# Altium schematic symbol library PinHeader_2.54mm.SchLib: 39 symbols
Pins are listed as number, name and electrical type; pins without a type are passive.

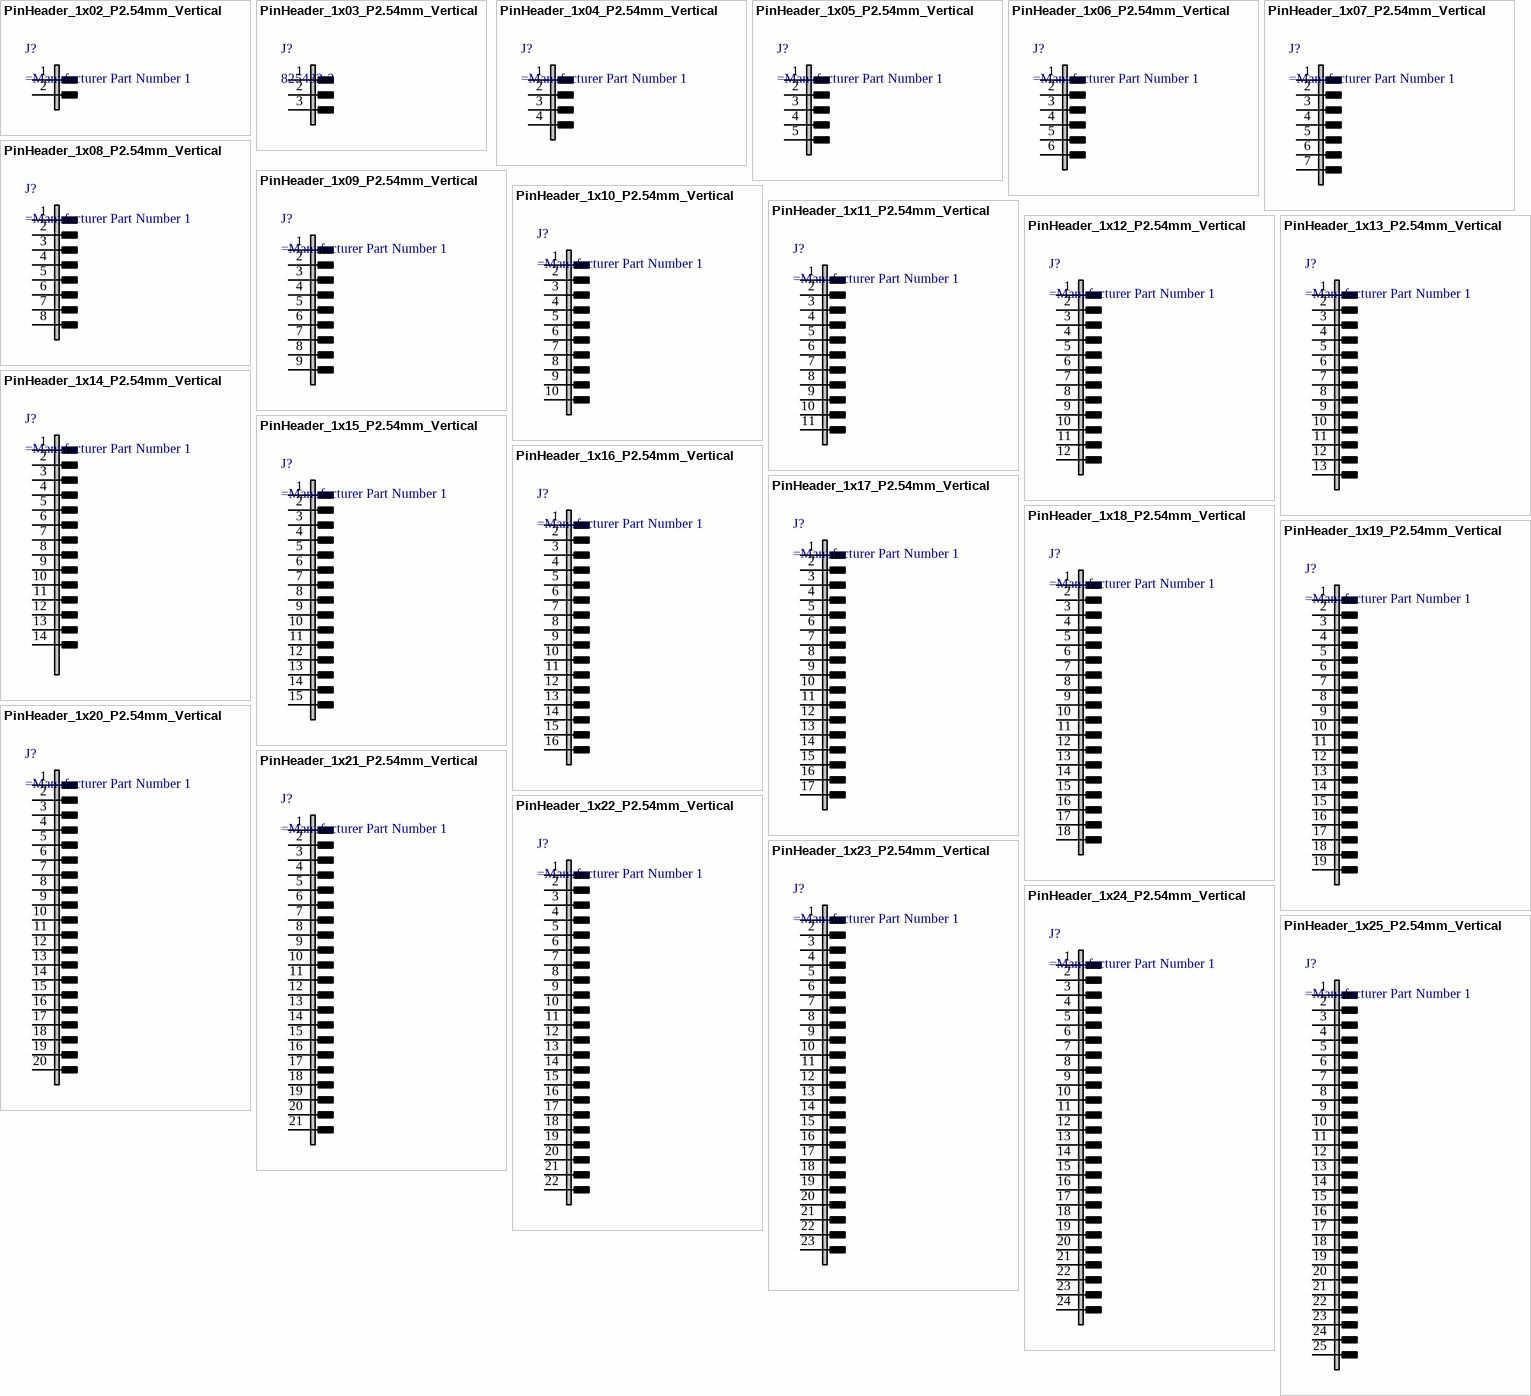
[diagram p0: symbols PinHeader_1x02_P2.54mm_Vertical to PinHeader_1x25_P2.54mm_Vertical]

## PinHeader_1x02_P2.54mm_Vertical
designator J?
Through hole straight pin header, 1x02, 2.54mm pitch, single row
footprint PinHeader_1x02_P2.54mm_Vertical (Through hole straight pin header, 1x02, 2.54mm pitch, single row)
pins: 1, 2

## PinHeader_1x03_P2.54mm_Vertical
designator J?, comment 825433-3
Through hole straight pin header, 1x03, 2.54mm pitch, single row; Manufacturer 1: TE Connectivity; Description 1: PCB Header, 2.54 mm, Vertical, Straight, 3-Way, Gold, AMPMODU Mod II Series; Category 1: Connectors; Current Rating: 3A; Number of Positions: 3; Connector Type: Plug,Header,Pin; Gender: Male; Board Standoff: No (Without); Keyed: No; PCB Mount Retention: Without; PCB Mounting Orientation: Vertical; Contact Current Rating: 5A; Contact Post Length: 0.1259inch; Plating Thickness: 2.5um; Approvals: CSA; Supplier 1: LCSC; Supplier Part Number 1: C306148; Manufacturer Part Number 1: 825433-3; RoHS 1: Yes; Stock 1: 886; Pricing 1: 1=0.52500, 10=0.42480, 30=0.38350, 100=0.28990, 500=0.27030, 1500=0.25770 (USD); Mount: Through Hole; Contact Plating: Gold,Tin; Contact Material: CuZn; Housing Material: PBT; Color: Green; Contact Shape: Square; Housing Color: Green; Contact Finish - Mating: GOLD; Insulation Material: PBT; Insulation Color: Green; Min Operating Temperature: -65°C; Max Operating Temperature: 105°C; Package Quantity: 2000; Number of Rows: 1; Packaging: Box; Contact Gender: Male; Termination: Through Hole; Number of Contacts: 3; Series: AMPMODU MOD II; Contact Type: Male Pin; Fastening Type: Pull; Orientation: Straight; Gasket: No (Without); Mating Alignment: No (Without); Mating Connector Lock: No (Without); Selectively Loaded: No (Without); Stabilizers: No (Without); Strain Relief: No (Without); Contact Protection: No (Without); High Speed Serial Data Connector: No; High Temperature Housing: No; Length: 7.62mm; Pitch: 2.54mm; Contact Mating Length: 6.7mm; Row Spacing: 2.54mm; Depth: 3.69mm; Radiation Hardening: No; Flammability Rating: UL94 V-0; RoHS Compliant: Yes; ELV: Compliant; Reach SVHC Compliant: Yes; ComponentLink1URL: https://datasheet.ciiva.com/11746/0900766b80dac36e-11746726.pdf?src-supplier=RSComponents; ComponentLink1Description: https://datasheet.ciiva.com/11746/0900766b80dac36e-11746726.pdf?src-supplier=RSComponents; ComponentLink2URL: https://datasheet.ciiva.com/23814/eng-cd-825433-r2-23814688.pdf?src-supplier=Newark; ComponentLink2Description: https://datasheet.ciiva.com/23814/eng-cd-825433-r2-23814688.pdf?src-supplier=Newark; ComponentLink3URL: https://datasheet.ciiva.com/29369/001094853-da-01-en-stiftleiste-1-reihig-0-0825433-3-29369863.pdf?src-supplier=Conrad; ComponentLink3Description: https://datasheet.ciiva.com/29369/001094853-da-01-en-stiftleiste-1-reihig-0-0825433-3-29369863.pdf?src-supplier=Conrad; ComponentLink4URL: https://datasheet.ciiva.com/8047/eng-cd-825433-r2-8047403.pdf?src-supplier=Element14; ComponentLink4Description: https://datasheet.ciiva.com/8047/eng-cd-825433-r2-8047403.pdf?src-supplier=Element14
footprint PinHeader_1x03_P2.54mm_Vertical (Through hole straight pin header, 1x03, 2.54mm pitch, single row)
pins: 1, 2, 3

## PinHeader_1x04_P2.54mm_Vertical
designator J?
Through hole straight pin header, 1x04, 2.54mm pitch, single row
footprint PinHeader_1x04_P2.54mm_Vertical (Through hole straight pin header, 1x04, 2.54mm pitch, single row)
pins: 1, 2, 3, 4

## PinHeader_1x05_P2.54mm_Vertical
designator J?
Through hole straight pin header, 1x05, 2.54mm pitch, single row
footprint PinHeader_1x05_P2.54mm_Vertical (Through hole straight pin header, 1x05, 2.54mm pitch, single row)
pins: 1, 2, 3, 4, 5

## PinHeader_1x06_P2.54mm_Vertical
designator J?
Through hole straight pin header, 1x06, 2.54mm pitch, single row
footprint PinHeader_1x06_P2.54mm_Vertical (Through hole straight pin header, 1x06, 2.54mm pitch, single row)
pins: 1, 2, 3, 4, 5, 6

## PinHeader_1x07_P2.54mm_Vertical
designator J?
Through hole straight pin header, 1x07, 2.54mm pitch, single row
footprint PinHeader_1x07_P2.54mm_Vertical (Through hole straight pin header, 1x07, 2.54mm pitch, single row)
pins: 1, 2, 3, 4, 5, 6, 7

## PinHeader_1x08_P2.54mm_Vertical
designator J?
Through hole straight pin header, 1x08, 2.54mm pitch, single row
footprint PinHeader_1x08_P2.54mm_Vertical (Through hole straight pin header, 1x08, 2.54mm pitch, single row)
pins: 1, 2, 3, 4, 5, 6, 7, 8

## PinHeader_1x09_P2.54mm_Vertical
designator J?
Through hole straight pin header, 1x09, 2.54mm pitch, single row
footprint PinHeader_1x09_P2.54mm_Vertical (Through hole straight pin header, 1x09, 2.54mm pitch, single row)
pins: 1, 2, 3, 4, 5, 6, 7, 8, 9

## PinHeader_1x10_P2.54mm_Vertical
designator J?
Through hole straight pin header, 1x10, 2.54mm pitch, single row
footprint PinHeader_1x10_P2.54mm_Vertical (Through hole straight pin header, 1x10, 2.54mm pitch, single row)
pins: 1, 2, 3, 4, 5, 6, 7, 8, 9, 10

## PinHeader_1x11_P2.54mm_Vertical
designator J?
Through hole straight pin header, 1x11, 2.54mm pitch, single row
footprint PinHeader_1x11_P2.54mm_Vertical (Through hole straight pin header, 1x11, 2.54mm pitch, single row)
pins: 1, 2, 3, 4, 5, 6, 7, 8, 9, 10, 11

## PinHeader_1x12_P2.54mm_Vertical
designator J?
Through hole straight pin header, 1x12, 2.54mm pitch, single row
footprint PinHeader_1x12_P2.54mm_Vertical (Through hole straight pin header, 1x12, 2.54mm pitch, single row)
pins: 1, 2, 3, 4, 5, 6, 7, 8, 9, 10, 11, 12

## PinHeader_1x13_P2.54mm_Vertical
designator J?
Through hole straight pin header, 1x13, 2.54mm pitch, single row
footprint PinHeader_1x13_P2.54mm_Vertical (Through hole straight pin header, 1x13, 2.54mm pitch, single row)
pins: 1, 2, 3, 4, 5, 6, 7, 8, 9, 10, 11, 12, 13

## PinHeader_1x14_P2.54mm_Vertical
designator J?
Through hole straight pin header, 1x14, 2.54mm pitch, single row
footprint PinHeader_1x14_P2.54mm_Vertical (Through hole straight pin header, 1x14, 2.54mm pitch, single row)
pins: 1, 2, 3, 4, 5, 6, 7, 8, 9, 10, 11, 12, 13, 14

## PinHeader_1x15_P2.54mm_Vertical
designator J?
Through hole straight pin header, 1x15, 2.54mm pitch, single row
footprint PinHeader_1x15_P2.54mm_Vertical (Through hole straight pin header, 1x15, 2.54mm pitch, single row)
pins: 1, 2, 3, 4, 5, 6, 7, 8, 9, 10, 11, 12, 13, 14, 15

## PinHeader_1x16_P2.54mm_Vertical
designator J?
Through hole straight pin header, 1x16, 2.54mm pitch, single row
footprint PinHeader_1x16_P2.54mm_Vertical (Through hole straight pin header, 1x16, 2.54mm pitch, single row)
pins: 1, 2, 3, 4, 5, 6, 7, 8, 9, 10, 11, 12, 13, 14, 15, 16

## PinHeader_1x17_P2.54mm_Vertical
designator J?
Through hole straight pin header, 1x17, 2.54mm pitch, single row
footprint PinHeader_1x17_P2.54mm_Vertical (Through hole straight pin header, 1x17, 2.54mm pitch, single row)
pins: 1, 2, 3, 4, 5, 6, 7, 8, 9, 10, 11, 12, 13, 14, 15, 16, 17

## PinHeader_1x18_P2.54mm_Vertical
designator J?
Through hole straight pin header, 1x18, 2.54mm pitch, single row
footprint PinHeader_1x18_P2.54mm_Vertical (Through hole straight pin header, 1x18, 2.54mm pitch, single row)
pins: 1, 2, 3, 4, 5, 6, 7, 8, 9, 10, 11, 12, 13, 14, 15, 16, 17, 18

## PinHeader_1x19_P2.54mm_Vertical
designator J?
Through hole straight pin header, 1x19, 2.54mm pitch, single row
footprint PinHeader_1x19_P2.54mm_Vertical (Through hole straight pin header, 1x19, 2.54mm pitch, single row)
pins: 1, 2, 3, 4, 5, 6, 7, 8, 9, 10, 11, 12, 13, 14, 15, 16, 17, 18, 19

## PinHeader_1x20_P2.54mm_Vertical
designator J?
Through hole straight pin header, 1x20, 2.54mm pitch, single row
footprint PinHeader_1x20_P2.54mm_Vertical (Through hole straight pin header, 1x20, 2.54mm pitch, single row)
pins: 1, 2, 3, 4, 5, 6, 7, 8, 9, 10, 11, 12, 13, 14, 15, 16, 17, 18, 19, 20

## PinHeader_1x21_P2.54mm_Vertical
designator J?
Through hole straight pin header, 1x21, 2.54mm pitch, single row
footprint PinHeader_1x21_P2.54mm_Vertical (Through hole straight pin header, 1x21, 2.54mm pitch, single row)
pins: 1, 2, 3, 4, 5, 6, 7, 8, 9, 10, 11, 12, 13, 14, 15, 16, 17, 18, 19, 20, 21

## PinHeader_1x22_P2.54mm_Vertical
designator J?
Through hole straight pin header, 1x22, 2.54mm pitch, single row
footprint PinHeader_1x22_P2.54mm_Vertical (Through hole straight pin header, 1x22, 2.54mm pitch, single row)
pins: 1, 2, 3, 4, 5, 6, 7, 8, 9, 10, 11, 12, 13, 14, 15, 16, 17, 18, 19, 20, 21, 22

## PinHeader_1x23_P2.54mm_Vertical
designator J?
Through hole straight pin header, 1x23, 2.54mm pitch, single row
footprint PinHeader_1x23_P2.54mm_Vertical (Through hole straight pin header, 1x23, 2.54mm pitch, single row)
pins: 1, 2, 3, 4, 5, 6, 7, 8, 9, 10, 11, 12, 13, 14, 15, 16, 17, 18, 19, 20, 21, 22, 23

## PinHeader_1x24_P2.54mm_Vertical
designator J?
Through hole straight pin header, 1x24, 2.54mm pitch, single row
footprint PinHeader_1x24_P2.54mm_Vertical (Through hole straight pin header, 1x24, 2.54mm pitch, single row)
pins: 1, 2, 3, 4, 5, 6, 7, 8, 9, 10, 11, 12, 13, 14, 15, 16, 17, 18, 19, 20, 21, 22, 23, 24

## PinHeader_1x25_P2.54mm_Vertical
designator J?
Through hole straight pin header, 1x25, 2.54mm pitch, single row
footprint PinHeader_1x25_P2.54mm_Vertical (Through hole straight pin header, 1x25, 2.54mm pitch, single row)
pins: 1, 2, 3, 4, 5, 6, 7, 8, 9, 10, 11, 12, 13, 14, 15, 16, 17, 18, 19, 20, 21, 22, 23, 24, 25

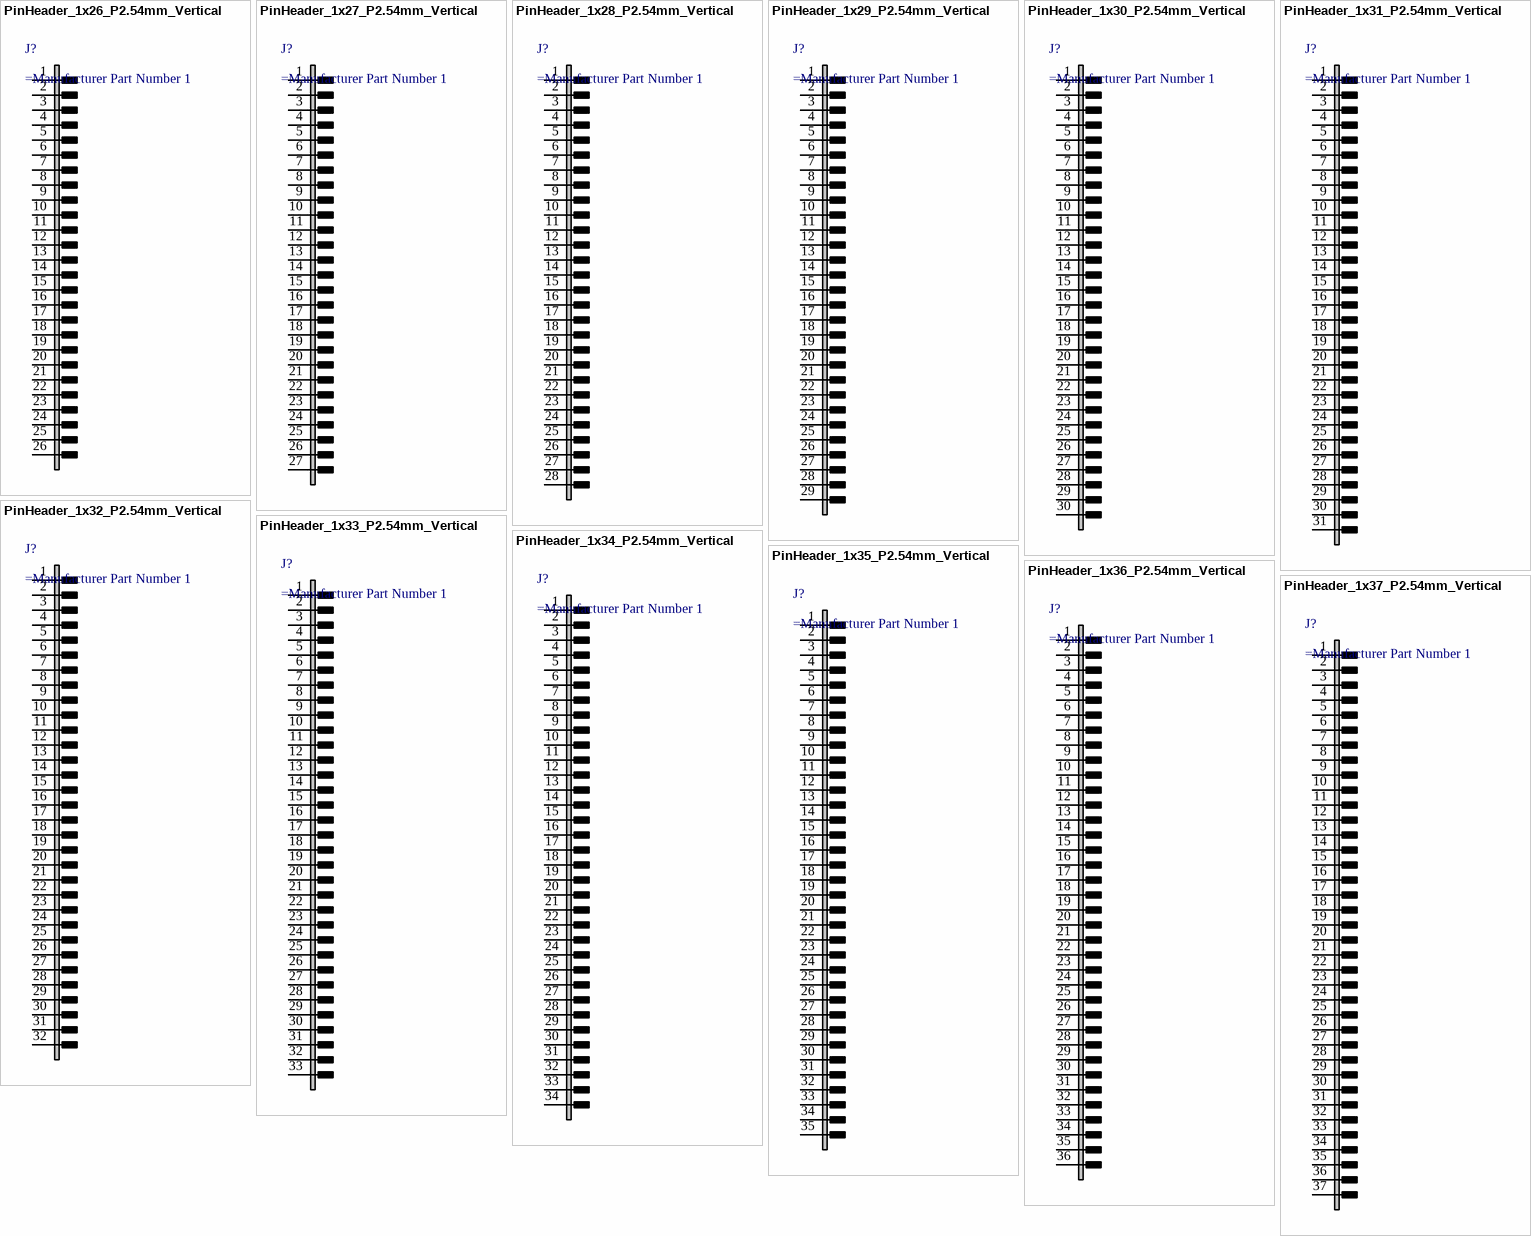
[diagram p1: symbols PinHeader_1x26_P2.54mm_Vertical to PinHeader_1x37_P2.54mm_Vertical]

## PinHeader_1x26_P2.54mm_Vertical
designator J?
Through hole straight pin header, 1x26, 2.54mm pitch, single row
footprint PinHeader_1x26_P2.54mm_Vertical (Through hole straight pin header, 1x26, 2.54mm pitch, single row)
pins: 1, 2, 3, 4, 5, 6, 7, 8, 9, 10, 11, 12, 13, 14, 15, 16, 17, 18, 19, 20, 21, 22, 23, 24, 25, 26

## PinHeader_1x27_P2.54mm_Vertical
designator J?
Through hole straight pin header, 1x27, 2.54mm pitch, single row
footprint PinHeader_1x27_P2.54mm_Vertical (Through hole straight pin header, 1x27, 2.54mm pitch, single row)
pins: 1, 2, 3, 4, 5, 6, 7, 8, 9, 10, 11, 12, 13, 14, 15, 16, 17, 18, 19, 20, 21, 22, 23, 24, 25, 26, 27

## PinHeader_1x28_P2.54mm_Vertical
designator J?
Through hole straight pin header, 1x28, 2.54mm pitch, single row
footprint PinHeader_1x28_P2.54mm_Vertical (Through hole straight pin header, 1x28, 2.54mm pitch, single row)
pins: 1, 2, 3, 4, 5, 6, 7, 8, 9, 10, 11, 12, 13, 14, 15, 16, 17, 18, 19, 20, 21, 22, 23, 24, 25, 26, 27, 28

## PinHeader_1x29_P2.54mm_Vertical
designator J?
Through hole straight pin header, 1x29, 2.54mm pitch, single row
footprint PinHeader_1x29_P2.54mm_Vertical (Through hole straight pin header, 1x29, 2.54mm pitch, single row)
pins: 1, 2, 3, 4, 5, 6, 7, 8, 9, 10, 11, 12, 13, 14, 15, 16, 17, 18, 19, 20, 21, 22, 23, 24, 25, 26, 27, 28, 29

## PinHeader_1x30_P2.54mm_Vertical
designator J?
Through hole straight pin header, 1x30, 2.54mm pitch, single row
footprint PinHeader_1x30_P2.54mm_Vertical (Through hole straight pin header, 1x30, 2.54mm pitch, single row)
pins: 1, 2, 3, 4, 5, 6, 7, 8, 9, 10, 11, 12, 13, 14, 15, 16, 17, 18, 19, 20, 21, 22, 23, 24, 25, 26, 27, 28, 29, 30

## PinHeader_1x31_P2.54mm_Vertical
designator J?
Through hole straight pin header, 1x31, 2.54mm pitch, single row
footprint PinHeader_1x31_P2.54mm_Vertical (Through hole straight pin header, 1x31, 2.54mm pitch, single row)
pins: 1, 2, 3, 4, 5, 6, 7, 8, 9, 10, 11, 12, 13, 14, 15, 16, 17, 18, 19, 20, 21, 22, 23, 24, 25, 26, 27, 28, 29, 30, 31

## PinHeader_1x32_P2.54mm_Vertical
designator J?
Through hole straight pin header, 1x32, 2.54mm pitch, single row
footprint PinHeader_1x32_P2.54mm_Vertical (Through hole straight pin header, 1x32, 2.54mm pitch, single row)
pins: 1, 2, 3, 4, 5, 6, 7, 8, 9, 10, 11, 12, 13, 14, 15, 16, 17, 18, 19, 20, 21, 22, 23, 24, 25, 26, 27, 28, 29, 30, 31, 32

## PinHeader_1x33_P2.54mm_Vertical
designator J?
Through hole straight pin header, 1x33, 2.54mm pitch, single row
footprint PinHeader_1x33_P2.54mm_Vertical (Through hole straight pin header, 1x33, 2.54mm pitch, single row)
pins: 1, 2, 3, 4, 5, 6, 7, 8, 9, 10, 11, 12, 13, 14, 15, 16, 17, 18, 19, 20, 21, 22, 23, 24, 25, 26, 27, 28, 29, 30, 31, 32, 33

## PinHeader_1x34_P2.54mm_Vertical
designator J?
Through hole straight pin header, 1x34, 2.54mm pitch, single row
footprint PinHeader_1x34_P2.54mm_Vertical (Through hole straight pin header, 1x34, 2.54mm pitch, single row)
pins: 1, 2, 3, 4, 5, 6, 7, 8, 9, 10, 11, 12, 13, 14, 15, 16, 17, 18, 19, 20, 21, 22, 23, 24, 25, 26, 27, 28, 29, 30, 31, 32, 33, 34

## PinHeader_1x35_P2.54mm_Vertical
designator J?
Through hole straight pin header, 1x35, 2.54mm pitch, single row
footprint PinHeader_1x35_P2.54mm_Vertical (Through hole straight pin header, 1x35, 2.54mm pitch, single row)
pins: 1, 2, 3, 4, 5, 6, 7, 8, 9, 10, 11, 12, 13, 14, 15, 16, 17, 18, 19, 20, 21, 22, 23, 24, 25, 26, 27, 28, 29, 30, 31, 32, 33, 34, 35

## PinHeader_1x36_P2.54mm_Vertical
designator J?
Through hole straight pin header, 1x36, 2.54mm pitch, single row
footprint PinHeader_1x36_P2.54mm_Vertical (Through hole straight pin header, 1x36, 2.54mm pitch, single row)
pins: 1, 2, 3, 4, 5, 6, 7, 8, 9, 10, 11, 12, 13, 14, 15, 16, 17, 18, 19, 20, 21, 22, 23, 24, 25, 26, 27, 28, 29, 30, 31, 32, 33, 34, 35, 36

## PinHeader_1x37_P2.54mm_Vertical
designator J?
Through hole straight pin header, 1x37, 2.54mm pitch, single row
footprint PinHeader_1x37_P2.54mm_Vertical (Through hole straight pin header, 1x37, 2.54mm pitch, single row)
pins: 1, 2, 3, 4, 5, 6, 7, 8, 9, 10, 11, 12, 13, 14, 15, 16, 17, 18, 19, 20, 21, 22, 23, 24, 25, 26, 27, 28, 29, 30, 31, 32, 33, 34, 35, 36, 37

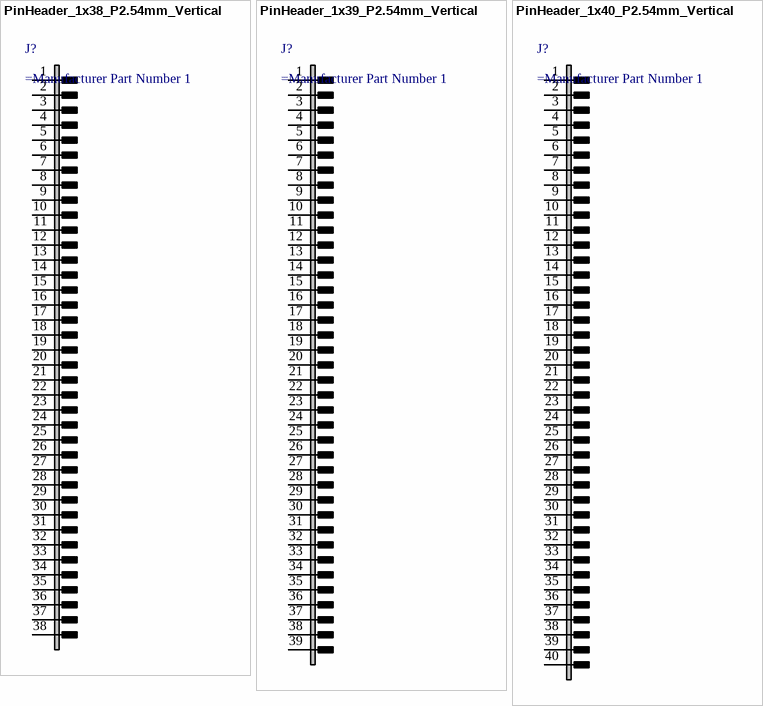
[diagram p2: symbols PinHeader_1x38_P2.54mm_Vertical to PinHeader_1x40_P2.54mm_Vertical]

## PinHeader_1x38_P2.54mm_Vertical
designator J?
Through hole straight pin header, 1x38, 2.54mm pitch, single row
footprint PinHeader_1x38_P2.54mm_Vertical (Through hole straight pin header, 1x38, 2.54mm pitch, single row)
pins: 1, 2, 3, 4, 5, 6, 7, 8, 9, 10, 11, 12, 13, 14, 15, 16, 17, 18, 19, 20, 21, 22, 23, 24, 25, 26, 27, 28, 29, 30, 31, 32, 33, 34, 35, 36, 37, 38

## PinHeader_1x39_P2.54mm_Vertical
designator J?
Through hole straight pin header, 1x39, 2.54mm pitch, single row
footprint PinHeader_1x39_P2.54mm_Vertical (Through hole straight pin header, 1x39, 2.54mm pitch, single row)
pins: 1, 2, 3, 4, 5, 6, 7, 8, 9, 10, 11, 12, 13, 14, 15, 16, 17, 18, 19, 20, 21, 22, 23, 24, 25, 26, 27, 28, 29, 30, 31, 32, 33, 34, 35, 36, 37, 38, 39

## PinHeader_1x40_P2.54mm_Vertical
designator J?
Through hole straight pin header, 1x40, 2.54mm pitch, single row
footprint PinHeader_1x40_P2.54mm_Vertical (Through hole straight pin header, 1x40, 2.54mm pitch, single row)
pins: 1, 2, 3, 4, 5, 6, 7, 8, 9, 10, 11, 12, 13, 14, 15, 16, 17, 18, 19, 20, 21, 22, 23, 24, 25, 26, 27, 28, 29, 30, 31, 32, 33, 34, 35, 36, 37, 38, 39, 40